# Altium footprint library LiPoBattery.PcbLib: 3 footprints
Each footprint in its own frame and in the unit in brackets; x right, y up, seen from the top. Pads: shape width x height; smd on the part's side, far side on the other; paste and mask are expansions set on the pad; w line width, h text height; cw(c..) or ccw(c..) is an arc to the next point about the centre after c.
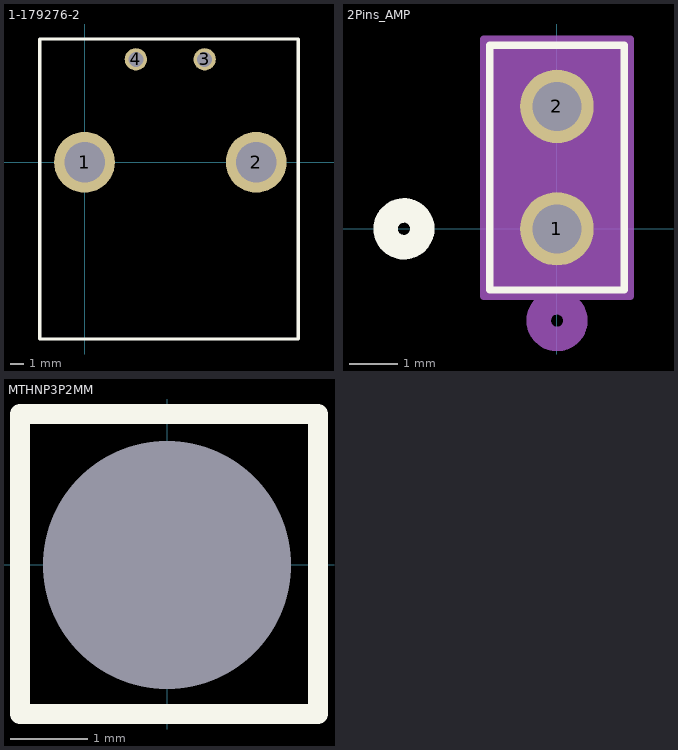
[diagram p0: the footprints below, top view; thin cyan lines are the x and y axes]

## 1-179276-2 [mm] "2_POS_HDR_X19MMY22MM"
height 9.35
pads (4):
  round 4.5 hole 3: 1(0,0) 2(12.7,0)
  round 1.65 hole 1.1: 3(8.89,7.62) 4(3.8,7.62)
Top Overlay:
  lines w0.254: -3.3,-13.075 -3.3,-1.975 -3.3,9.125 15.8,9.125 15.8,-13.075 -3.3,-13.075
  text ".Designator" at -1.021,10.962 h1.52
3D body "c-0179276-12-b-3d.stp": height 10.86, standoff -3.79, extent -3.24,-13.65 15.84,8.45

## 2Pins_AMP [mil]
pads (2):
  round 60 hole 40 paste-99999 mask+0: 1(0,0) 2(0,100)
Top Overlay:
  circle w20: c-125,0 r15
  lines w6: -55,-50 55,-50 55,150 -55,150 -55,-50
Bottom Overlay:
  circle w20: c-125,0 r15
Mechanical 13:
  circle w20: c0,-75 r15
  lines w1: -50,-45 50,-45 50,145 -50,145 -50,-45
Mechanical 15:
  region: 60,155 -60,155 -60,-55 60,-55
  lines w6: -60,-55 -60,155 60,155 60,-55 -60,-55

## MTHNP3P2MM [mm] "Mouting Hole Non-Plated, 3.2 mm hole"
pads (1):
  round 1 hole 3.2: ""(0,0)
Top Overlay:
  lines w0.254: -1.9,-1.925 -1.9,1.95 -1.225,1.95 -0.575,1.95 0.2,1.95 1.95,1.95 1.95,-1.925 -1.9,-1.925